# Altium schematic symbol library SCH_General.SchLib: 33 symbols
Pins are listed as number, name and electrical type; pins without a type are passive.

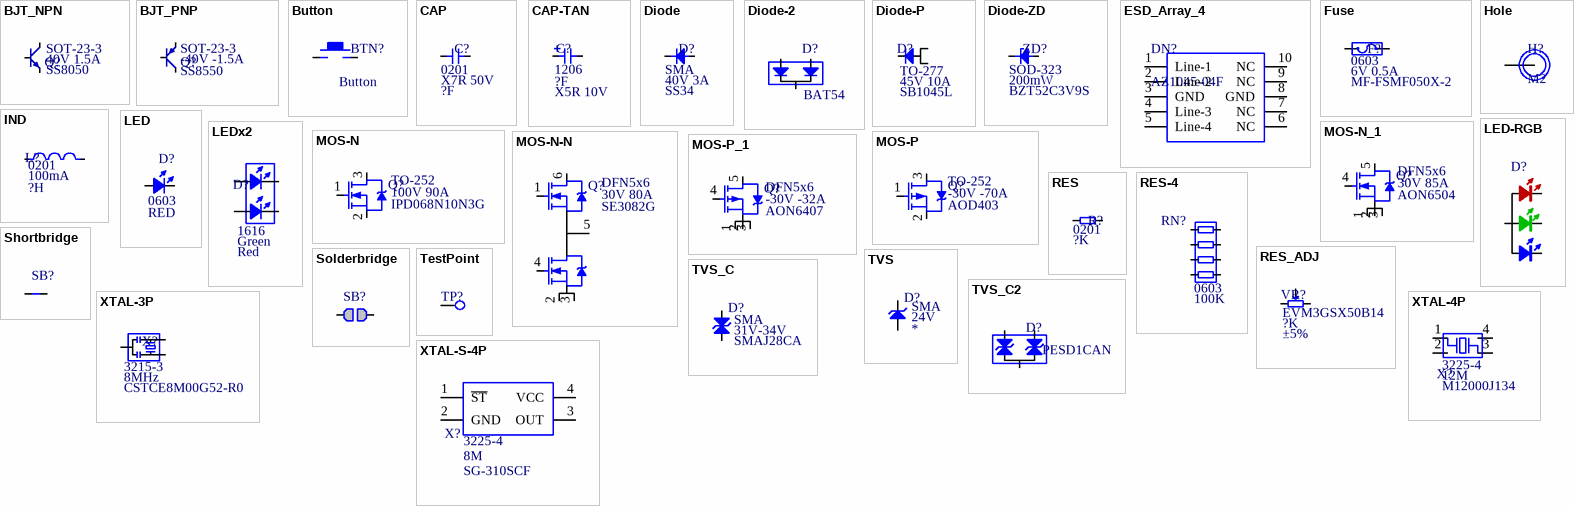
[diagram p0: symbols BJT_NPN to XTAL-S-4P]

## BJT_NPN
designator Q?, comment Specification: 40V 1.5A  Footprint: SOT-23-3  (hidden comment: SS8050)
Transistor; Value: SS8050
footprint SOT-23-3
footprint SC70-3L
pins: 1 B, 2 E, 3 C

## BJT_PNP
designator Q?, comment Specification: -40V -1.5A  Footprint: SOT-23-3  (hidden comment: SS8550)
Transistor; Value: SS8550
footprint SOT-23-3
footprint SC70-3L
pins: 1 B, 2 E, 3 C

## Button
designator BTN?
footprint BTN-YD-3414
footprint BTN_2S
footprint BTN-4P-4.2*3.4*2.5 (SKRPABE010)
pins: 1, 2

## CAP
designator C?, comment Footprint: 0201  Specification: X7R 50V  (hidden comment: ?F)
Capacitor; Manufacturer: *; Value: ?F
footprint CAP_0201
footprint CAP_0402
footprint CAP_0603
footprint CAP_0805
footprint CAP_1206
footprint CAP_1210
footprint CAP_5750
pins: 1, 2

## CAP-TAN
designator C?, comment Specification: X5R 10V  Footprint: 1206  (hidden comment: ?F)
Capacitor Tantalum; Manufacturer: *; Value: ?F
footprint CAP_TAN_A1206
footprint CAP_TAN_B1210
footprint CAP_TAN_D2917
footprint CAP_TAN_P0805
pins: 1, 2
1 alternate drawing of the same symbol

## Diode
designator D?, comment Specification: 40V 3A  Footprint: SMA  (hidden comment: SS34)
Diode; Manufacturer: *; Value: SS34
footprint SOD-323
footprint SOD-123
footprint SOD-523
footprint Diode_SMA
footprint Diode_SMB
pins: 1, 2

## Diode-2
designator D?, comment BAT54
Value: BAT54
footprint SOT-23-3
pins: 1, 2, 3

## Diode-P
designator D?, comment Specification: 45V 10A  Footprint: TO-277  (hidden comment: SB1045L)
Power Diode; Manufacturer: *; Value: SB1045L
footprint TO-277
pins: 1, 2, 3

## Diode-ZD
designator ZD?, comment Specification: 200mW  Footprint: SOD-323  (hidden comment: BZT52C3V9S)
Zender Diode; Manufacturer: *; Value: BZT52C3V9S
footprint SOD-323
footprint SOD-123
pins: 1, 2

## ESD_Array_4
designator DN?, comment AZ1045-04F
ESD_Array; Specification: 6V; Footprint: DFN-2510; Value: AZ1045-04F
footprint DFN-2510
pins: 1 Line-1, 2 Line-2, 3 GND, 4 Line-3, 5 Line-4, 6 NC, 7 NC, 8 GND, 9 NC, 10 NC

## Fuse
designator F?, comment Footprint: 0603  Specification: 6V 0.5A  (hidden comment: MF-FSMF050X-2)
Fuse; Manufacturer: *; Value: MF-FSMF050X-2
footprint FUSE_0805
footprint FUSE_0603
footprint FUSE_1206
footprint FUSE_1808 (1808/2410保险丝座)
footprint FUSE_1812 (2-Leads, Body 4.55x3.24mm, IPC High Density)
pins: 1, 2

## Hole
designator H?, comment M2
footprint Hole_M2_PAD
footprint Hole_M3
footprint Hole_M3_PAD
pins: 1

## IND
designator L?, comment Specification: 100mA  Footprint: 0201  (hidden comment: ?H)
Inductor; Manufacturer: *; Value: ?H
footprint IND_0201
footprint IND_0402
footprint IND_0603
footprint IND_0805
footprint IND_P_0420
footprint IND_P_0420_2
footprint IND_P_0630 (7*6.6*2.8MM(长*宽*高))
footprint IND_P_0850 (7.8*7.5*5.0MM(长*宽*高))
footprint IND_P_10040 (10.1*11.6*4.0MM(长*宽*高))
footprint IND_P_12560 (12.5*12.8*6.0MM(长*宽*高))
footprint IND_P_201610 (2.0×1.6×1.0)
footprint IND_1008
pins: 1, 2

## LED
designator D?, comment Footprint: 0603  (hidden comment: RED)
LED; Value: RED
footprint LED_0603
footprint LED_0402
pins: 1 A, 2 K

## LED-RGB
designator D?, comment LED_RGB  (value not drawn)
Footprint: 3528
footprint LED_3528_RGB
pins: 1 R, 2 G, 3 B, 4 A

## LEDx2
designator D?  Value2: Red  Footprint: 1616  Value1: Green
LED双色
footprint LED_1616
pins: 1, 2, 3, 4

## MOS-N
designator Q?, comment Footprint: TO-252  Specification: 100V 90A  (hidden comment: IPD068N10N3G)
N-Channel MOSFET; Value: IPD068N10N3G
footprint TO-252
footprint SOT-23-3
footprint SC70-3L
pins: 1 G, 2 S, 3 D

## MOS-N-N
designator Q?, comment Footprint: DFN5x6  Specification: 30V 80A  (hidden comment: SE3082G)
Dual N-Channel MOSFET; Value: SE3082G
footprint DFN5×6 EP2
pins: 1 G, 2 S, 3 S, 4 G, 5 D, 6 D

## MOS-N_1
designator Q?, comment Specification: 30V 85A  Footprint: DFN5x6  (hidden comment: AON6504)
N-Channel MOSFET; Value: AON6504
footprint SOT-669 (DPAK, 4-Leads, Body 5x4.1mm, Pitch 1.27mm, IPC Medium Density)
footprint DFN5x6
pins: 1 S, 2 S, 3 S, 4 G, 5 D

## MOS-P
designator Q?, comment Specification: -30V -70A  Footprint: TO-252  (hidden comment: AOD403)
P-Channel MOSFET; Value: AOD403
footprint TO-252
footprint SOT-23-3
footprint SC70-3L
pins: 1 G, 2 S, 3 D

## MOS-P_1
designator Q?, comment Specification: -30V -32A  Footprint: DFN5x6  (hidden comment: AON6407)
P-Channel MOSFET; Value: AON6407
footprint SOT-669 (DPAK, 4-Leads, Body 5x4.1mm, Pitch 1.27mm, IPC Medium Density)
footprint DFN5x6
pins: 1 S, 2 S, 3 S, 4 G, 5 D

## RES
designator R?, comment Footprint: 0201  (hidden comment: ?K)
Resistor; Specification: ±1%; Manufacturer: *; Value: ?K
footprint RES_0201
footprint RES_0402
footprint RES_0603
footprint RES_0805
footprint RES_1206
footprint RES_2512
pins: 1, 2

## RES-4
designator RN?, comment Footprint: 0603  (hidden comment: 100K)
Resistor Array; Specification: ±5%; Value: 100K
footprint RES_0603X4
footprint RES_0402X4 (Chip Array, Concave, 8-Leads, Pitch 0.50mm,  Body 2.00x1.00mm,  IPC Medium Density)
pins: 1, 2, 3, 4, 5, 6, 7, 8

## RES_ADJ
designator VR?, comment Specification: ±5%  Footprint: EVM3GSX50B14  (hidden comment: ?K)
Resistor Variable; Manufacturer: *; Value: ?K
footprint RES_EVM3GSX50B14
pins: 1, 2, 3

## Shortbridge
designator SB?, comment Solderbridge  (value not drawn)  (no BOM)
Shortbridge; Value: Solderbridge
footprint ShortBridge_0.2
pins: 1, 2

## Solderbridge
designator SB?  (value not drawn)  (no BOM)
Value: Solderbridge
footprint SOLDERBRIDGE_0603
pins: 1, 2

## TestPoint
designator TP?  (value not drawn)
footprint TESTPOINT
pins: 1

## TVS
designator D?  Footprint: SMA  Specification: 24V  (hidden comment: *)
TVS; Value: *
footprint Diode_SMB
footprint Diode_SMA
footprint SOD-323
pins: 1, 2

## TVS_C
designator D?, comment Footprint: SMA  Specification: 31V-34V  (hidden comment: SMAJ28CA)
双向TVS; Value: SMAJ28CA
footprint Diode_SMA
footprint Diode_SMB
footprint SOD-323
pins: 1, 2

## TVS_C2
designator D?, comment PESD1CAN
Value: PESD1CAN
footprint SOT-23-3
pins: 1, 2, 3

## XTAL-3P
designator X?, comment Specification: 8MHz  Footprint: 3215-3  (hidden comment: CSTCE8M00G52-R0)
Value: CSTCE8M00G52-R0
footprint XTAL_3215-3
pins: 1 OSC1, 2 GND, 3 OSC2

## XTAL-4P
designator X?, comment Specification: 12M  Footprint: 3225-4  (hidden comment: M12000J134)
Value: M12000J134
footprint XTAL_3225-4
footprint XTAL_2520-4
pins: 1 IN, 2 GND, 3 OUT, 4 GND

## XTAL-S-4P
designator X?, comment Specification: 8M  Footprint: 3225-4  (hidden comment: SG-310SCF)
Value: SG-310SCF
footprint XTAL_3225-4
footprint XTAL_2520-4
pins: 1 ~{ST}, 2 GND, 3 OUT, 4 VCC